# Altium schematic symbol library headers8.SchLib: 1 symbol
Pins are listed as number, name and electrical type; pins without a type are passive.

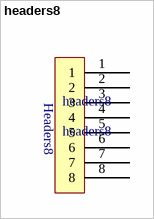
[diagram p0: symbol headers8]

## headers8
designator headers8
footprint Headers8
pins: 1, 2, 3, 4, 5, 6, 7, 8
text: Headers8